# Altium footprint library MiniRobot1.PcbLib: 7 footprints
Each footprint in its own frame and in the unit in brackets; x right, y up, seen from the top. Pads: shape width x height; smd on the part's side, far side on the other; paste and mask are expansions set on the pad; w line width, h text height; cw(c..) or ccw(c..) is an arc to the next point about the centre after c.
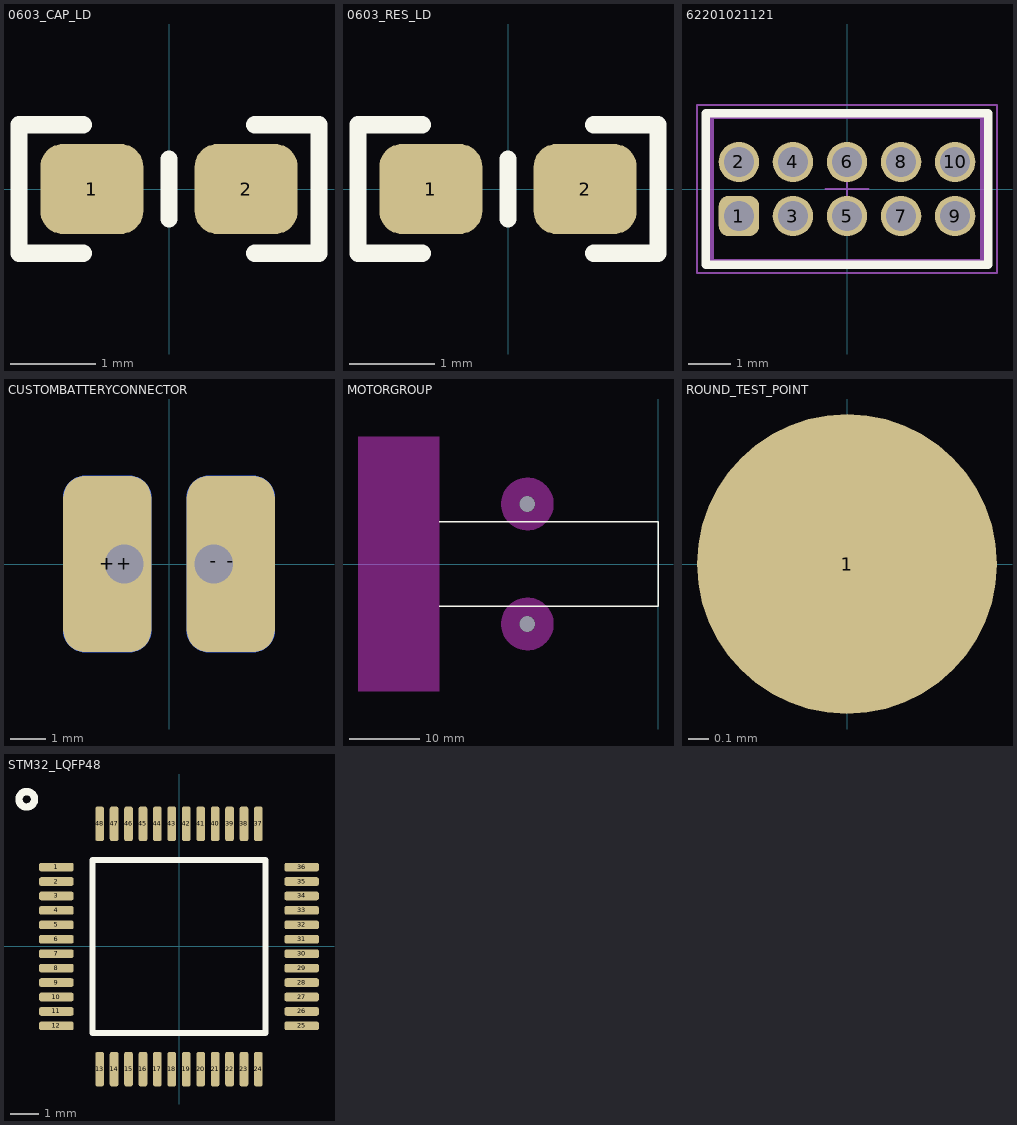
[diagram p0: the footprints below, top view; thin cyan lines are the x and y axes]

## 0603_CAP_LD [mm] "0603 Capacitor Low Density"
height 0.55
pads (2):
  rrect50% 1.2x1.05 smd: 1(-0.9,0) 2(0.9,0)
Top Overlay:
  lines w0.2: -1,-0.75 -1.75,-0.75 -1.75,0.75 -1,0.75 ; 0,-0.35 0,0.35 ; 1,-0.75 1.75,-0.75 1.75,0.75 1,0.75

## 0603_RES_LD [mm] "0603 Resistor Low Density"
height 0.55
pads (2):
  rrect50% 1.2x1.05 smd: 1(-0.9,0) 2(0.9,0)
Top Overlay:
  lines w0.2: -1,-0.75 -1.75,-0.75 -1.75,0.75 -1,0.75 ; 0,-0.35 0,0.35 ; 1,-0.75 1.75,-0.75 1.75,0.75 1,0.75

## 62201021121 [mm] "Pin Header, pitch 1.27 mm, THT, Vertical, dual row, 10p"
height 5.65
pads (10):
  rrect50% 0.95x0.95 hole 0.7: 1(-2.54,-0.635)
  round 0.95 hole 0.7: 2(-2.54,0.635) 3(-1.27,-0.635) 4(-1.27,0.635) 5(0,-0.635) 6(0,0.635) 7(1.27,-0.635) 8(1.27,0.635) 9(2.54,-0.635) 10(2.54,0.635)
Top Overlay:
  lines w0.2: -3.325,-1.775 3.325,-1.775 3.325,1.775 -3.325,1.775 -3.325,-1.775
Mechanical 2:
  lines w0.1: -3.175,-1.7 3.175,-1.7 3.175,1.7 -3.175,1.7 -3.175,-1.7
Mechanical 3:
  lines w0.05: -0.5,0 0.5,0 ; 0,-0.5 0,0.5 ; -3.525,-1.975 3.525,-1.975 3.525,1.975 -3.525,1.975 -3.525,-1.975
Mechanical 4:
  text ".Designator" at -0.8,-0.6 h1.2
Mechanical 11:
  lines w0.1: -3.175,-1.7 3.175,-1.7 3.175,1.7 -3.175,1.7 -3.175,-1.7
3D body: height 5.33, standoff -2.27, extent -3.175,-1.7 3.175,1.7

## CUSTOMBATTERYCONNECTOR [mm] "CustomBatteryConnector"
pads (6):
  rrect50% 2.5x5 smd paste-100: +(-1.75,0) -(1.75,0)
  rrect50% 2.5x5 smd far side paste-100: +(-1.75,0) -(1.75,0)
  round 1.5 hole 1.1 unplated paste-100: +(-1.27,0) -(1.27,0)

## MOTORGROUP [mm]
pads (2):
  round 0 hole 2.2 unplated paste+0 mask+0: 21(-18.5,8.5) 22(-18.5,-8.5)
Top Overlay:
  lines w0.2: -31,-6 0,-6 0,6 -31,6
Keep-Out Layer:
  pour cut-out: -31,-18 -31,18 -42.5,18 -42.5,-18
Keep-Out Layer:
  circle w2.6: c-18.5,-8.5 r2.425
  circle w2.6: c-18.5,8.5 r2.425

## ROUND_TEST_POINT [mm] "Small round test point"
pads (1):
  round 1.5 smd paste-100: 1(0,0)

## STM32_LQFP48 [mm]
pads (48):
  rrect50% 1.2x0.3 smd: 1(-4.25,2.75) 2(-4.25,2.25) 3(-4.25,1.75) 4(-4.25,1.25) 5(-4.25,0.75) 6(-4.25,0.25) 7(-4.25,-0.25) 8(-4.25,-0.75) 9(-4.25,-1.25) 10(-4.25,-1.75) 11(-4.25,-2.25) 12(-4.25,-2.75) 25(4.25,-2.75) 26(4.25,-2.25) 27(4.25,-1.75) 28(4.25,-1.25) 29(4.25,-0.75) 30(4.25,-0.25) 31(4.25,0.25) 32(4.25,0.75) 33(4.25,1.25) 34(4.25,1.75) 35(4.25,2.25) 36(4.25,2.75)
  rrect50% 0.3x1.2 smd: 13(-2.75,-4.25) 14(-2.25,-4.25) 15(-1.75,-4.25) 16(-1.25,-4.25) 17(-0.75,-4.25) 18(-0.25,-4.25) 19(0.25,-4.25) 20(0.75,-4.25) 21(1.25,-4.25) 22(1.75,-4.25) 23(2.25,-4.25) 24(2.75,-4.25) 37(2.75,4.25) 38(2.25,4.25) 39(1.75,4.25) 40(1.25,4.25) 41(0.75,4.25) 42(0.25,4.25) 43(-0.25,4.25) 44(-0.75,4.25) 45(-1.25,4.25) 46(-1.75,4.25) 47(-2.25,4.25) 48(-2.75,4.25)
Top Overlay:
  circle w0.254: c-5.275,5.1 r0.269
  lines w0.2: -3,-3 3,-3 3,3 -3,3 -3,-3